# Altium schematic symbol library SnapEDAsch.SchLib: 1 symbol
Pins are listed as number, name and electrical type; pins without a type are passive.

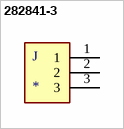
[diagram p0: symbol 282841-3]

## 282841-3
designator J
Conn Terminal Block 3 POS 5.08mm Solder ST Thru-Hole 17.5A/Contact; MP: 282841-3; MF: TE Connectivity; EU_RoHS_Compliance: Compliant with Exemptions; Price: None; Availability: Unavailable; Package: None; TE_purchase_URL: https://www.te.com/usa-en/product-282841-3.html?te_bu=Cor&te_type=disp&te_campaign=seda_glo_cor-seda-global-disp-prtnr-fy19-seda-model-bom-cta_sma-317_1&elqCampaignId=32493; Value: *; SnapEDA_Link: https://www.snapeda.com/parts/282841-3/TE%20Connectivity%20AMP%20Connectors/view-part/469966/?ref=snap
footprint TE_282841-3
pins: 1, 2, 3